# Altium schematic symbol library Trans,RF,NPN,12V,7GHz,SMD.Schlib: 1 symbol
Pins are listed as number, name and electrical type; pins without a type are passive.

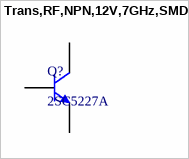
[diagram p0: symbol Trans,RF,NPN,12V,7GHz,SMD]

## Trans,RF,NPN,12V,7GHz,SMD
designator Q?, comment 2SC5227A
RF Transistor NPN 10V 70mA 7GHz 200mW Surface Mount 3-CP
pins: 1 B, 2 E, 3 C